# Altium schematic symbol library RGB_LED.SchLib: 1 symbol
Pins are listed as number, name and electrical type; pins without a type are passive.

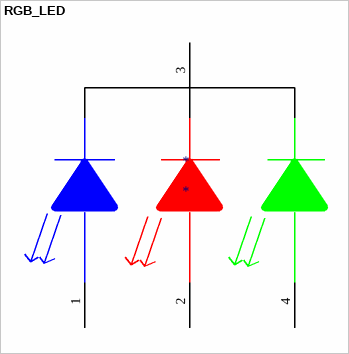
[diagram p0: symbol RGB_LED]

## RGB_LED
designator *
pins: 1 B, 2 R, 3 (COM), 4 G